# Altium footprint library Common-Components.PcbLib: 10 footprints
Each footprint in its own frame and in the unit in brackets; x right, y up, seen from the top. Pads: shape width x height; smd on the part's side, far side on the other; paste and mask are expansions set on the pad; w line width, h text height; cw(c..) or ccw(c..) is an arc to the next point about the centre after c.
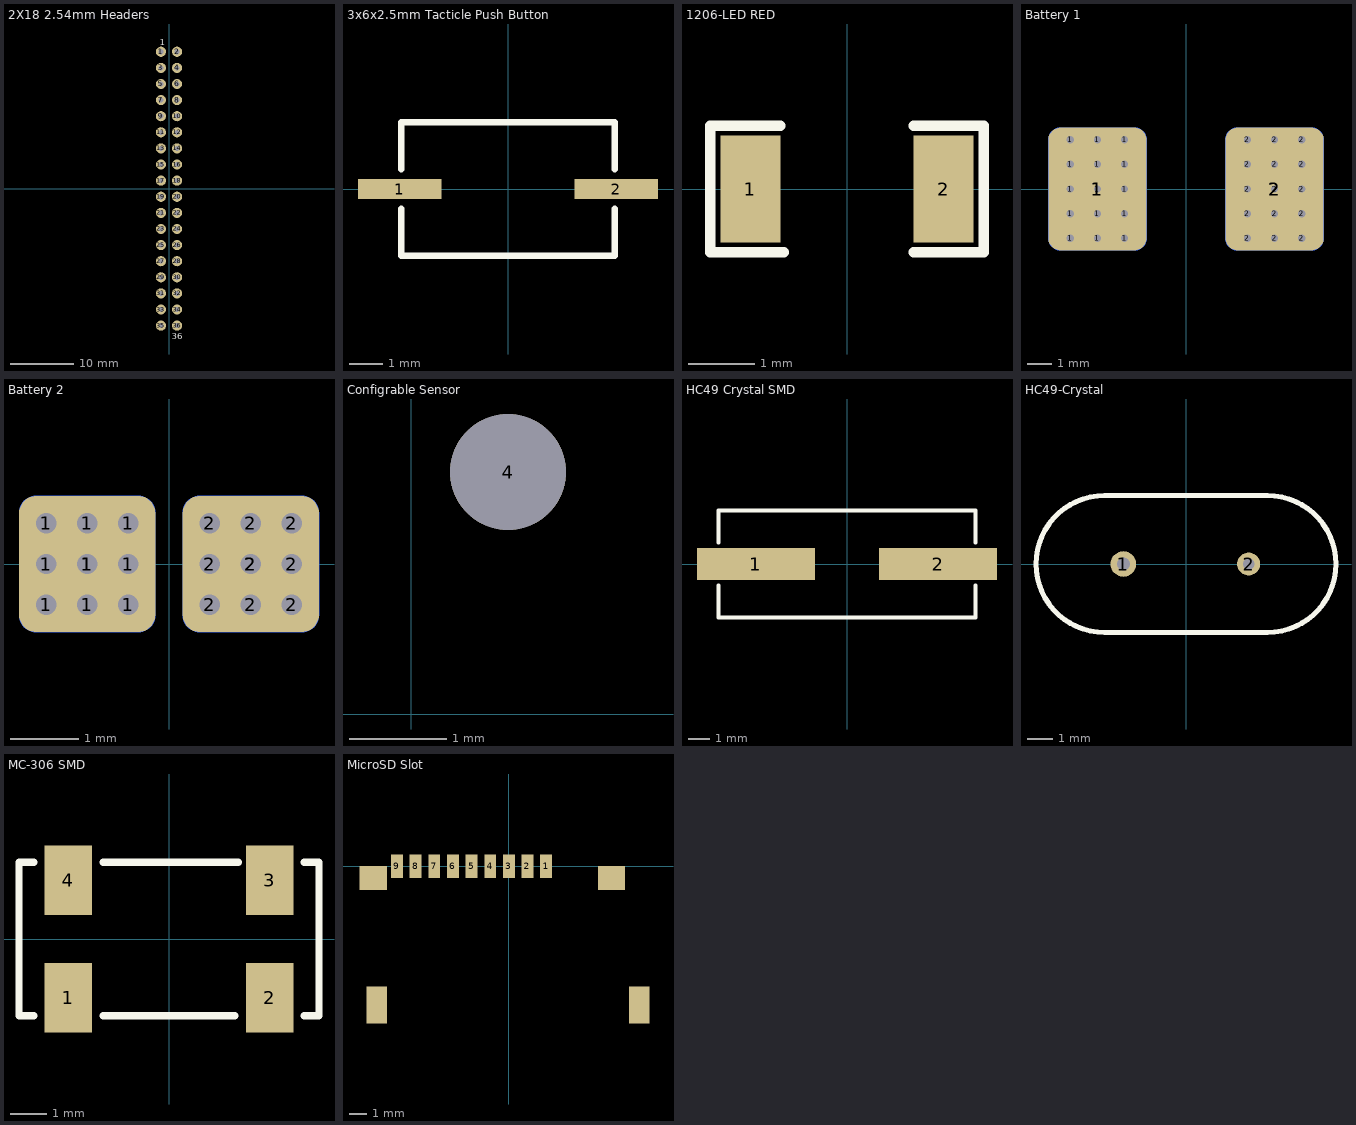
[diagram p0: the footprints below, top view; thin cyan lines are the x and y axes]

## 2X18 2.54mm Headers [mm] "2X18 2.54mm Headers"
pads (36):
  round 1.6 hole 0.8: 1(-1.27,21.59) 2(1.27,21.59) 3(-1.27,19.05) 4(1.27,19.05) 5(-1.27,16.51) 6(1.27,16.51) 7(-1.27,13.97) 8(1.27,13.97) 9(-1.27,11.43) 10(1.27,11.43) 11(-1.27,8.89) 12(1.27,8.89) 13(-1.27,6.35) 14(1.27,6.35) 15(-1.27,3.81) 16(1.27,3.81) 17(-1.27,1.27) 18(1.27,1.27) 19(-1.27,-1.27) 20(1.27,-1.27) 21(-1.27,-3.81) 22(1.27,-3.81) 23(-1.27,-6.35) 24(1.27,-6.35) 25(-1.27,-8.89) 26(1.27,-8.89) 27(-1.27,-11.43) 28(1.27,-11.43) 29(-1.27,-13.97) 30(1.27,-13.97) 31(-1.27,-16.51) 32(1.27,-16.51) 33(-1.27,-19.05) 34(1.27,-19.05) 35(-1.27,-21.59) 36(1.27,-21.59)
Top Overlay:
  text "1" at -1.437,22.6 h1
  text "36" at 0.437,-23.7 h1

## 3x6x2.5mm Tacticle Push Button [mm]
pads (2):
  rect 2.5x0.6 smd: 1(-3.25,0) 2(3.25,0)
Top Overlay:
  lines w0.2: -3.2,-0.6 -3.2,-2 3.2,-2 3.2,-0.6 ; -3.2,0.6 -3.2,2 3.2,2 3.2,0.6
3D body "6x3mm Button.stp": height 2.54, standoff -0.03, extent -3.886,-1.791 3.886,1.791

## 1206-LED RED [mm]
pads (2):
  rect 0.9x1.6 smd: 1(-1.45,0) 2(1.45,0)
Top Overlay:
  lines w0.16: -2.05,-0.95 -2.05,0.95 -1,0.95 ; -2,-0.95 -0.95,-0.95 ; 1,-0.95 2.05,-0.95 2.05,0.95 1,0.95
3D body "Surface Mount Chip LED 3.2x1.6mm 2.stp": height 1.11, standoff 0, extent -1.6,-0.803 1.6,0.797

## Battery 1 [mm] "Battery 1"
pads (34):
  round 0.4 hole 0.3: 1(-4.7,-2) 1(-4.7,-1) 1(-4.7,0) 1(-4.7,1) 1(-4.7,2) 1(-3.6,-2) 1(-3.6,-1) 1(-3.6,0) 1(-3.6,1) 1(-3.6,2) 1(-2.5,-2) 1(-2.5,-1) 1(-2.5,0) 1(-2.5,1) 1(-2.5,2) 2(2.5,-2) 2(2.5,-1) 2(2.5,0) 2(2.5,1) 2(2.5,2) 2(3.6,-2) 2(3.6,-1) 2(3.6,0) 2(3.6,1) 2(3.6,2) 2(4.7,-2) 2(4.7,-1) 2(4.7,0) 2(4.7,1) 2(4.7,2)
  rrect25% 4x5 smd: 1(-3.6,0) 2(3.6,0)
  rrect25% 4x5 smd far side: 1(-3.6,0) 2(3.6,0)

## Battery 2 [mm] "Battery 1"
pads (22):
  round 0.4 hole 0.3: 1(-1.8,-0.6) 1(-1.8,0) 1(-1.8,0.6) 1(-1.2,-0.6) 1(-1.2,0) 1(-1.2,0.6) 1(-0.6,-0.6) 1(-0.6,0) 1(-0.6,0.6) 2(0.6,-0.6) 2(0.6,0) 2(0.6,0.6) 2(1.2,-0.6) 2(1.2,0) 2(1.2,0.6) 2(1.8,-0.6) 2(1.8,0) 2(1.8,0.6)
  rrect25% 2x2 smd: 1(-1.2,0) 2(1.2,0)
  rrect25% 2x2 smd far side: 1(-1.2,0) 2(1.2,0)

## Configrable Sensor [mm]
pads (1):
  round 1.2 hole 1.2: 4(1,2.5)
Multi-Layer:
  rectangle: 0,0 2,2.5

## HC49 Crystal SMD [mm]
pads (2):
  rect 5.5x1.5 smd: 1(-4.25,0) 2(4.25,0)
Top Overlay:
  lines w0.2: -6,-1 -6,-2.5 6,-2.5 6,-1 ; -6,1 -6,2.5 6,2.5 6,1
3D body "smdcrystal.STEP": height 3.85, standoff 0, extent -6.79,-2.4 6.79,2.4

## HC49-Crystal [mm] "HC49-Crystal"
pads (2):
  round 1 hole 0.5: 1(-2.44,0)
  round 0.9 hole 0.45: 2(2.44,0)
Top Overlay:
  lines w0.2: -5.842,0 ccw(c-3.175,0) -3.175,-2.667 3.175,-2.667 ccw(c3.175,0) 5.842,0 ccw(c3.175,0) 3.175,2.667 -3.175,2.667 ccw(c-3.175,0) -5.842,0
3D body "xtalcrystal.STEP": height 3.68, standoff -2, extent -5.675,-2.5 5.675,2.5

## MC-306 SMD [mm] "MC-306 Crystal"
pads (4):
  rect 1.3x1.9 smd: 1(-2.75,-1.6) 2(2.75,-1.6) 3(2.75,1.6) 4(-2.75,1.6)
Top Overlay:
  lines w0.2: -3.7,-2.1 -4.1,-2.1 -4.1,2.1 -3.7,2.1 ; -1.8,-2.1 1.8,-2.1 ; -1.8,2.1 1.9,2.1 ; 3.7,-2.1 4.1,-2.1 4.1,2.1 3.7,2.1
3D body "ABRACON_ABS25-32.768KHZ-6-T.STEP": height 2.66, standoff 0, extent -4,-2 4,2

## MicroSD Slot [mm] "MicroSD Slot"
pads (13):
  rect 0.7x1.4 smd: 1(2.2,0) 2(1.1,0) 3(0,0) 4(-1.1,0) 5(-2.2,0) 6(-3.3,0) 7(-4.4,0) 8(-5.5,0) 9(-6.6,0)
  rect 1.6x1.4 smd: ""(-8,-0.7) ""(6.05,-0.7)
  rect 1.2x2.2 smd: ""(-7.8,-8.2) ""(7.7,-8.2)